# Altium schematic symbol library TPD6E05U06.SchLib: 1 symbol
Pins are listed as number, name and electrical type; pins without a type are passive.

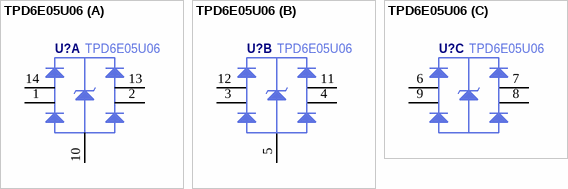
[diagram p0: symbol TPD6E05U06]

## TPD6E05U06
designator U?
Manufacturer Part Number: TPD6E05U06
part A pins: 1 NC, 2 NC, 10 GND, 13 D1-, 14 D1+
part B pins: 3 NC, 4 NC, 5 GND, 11 D2-, 12 D2+
part C pins: 6 NC, 7 NC, 8 D3-, 9 D3+